# Altium footprint library Pcblib.PcbLib: 9 footprints
Each footprint in its own frame and in the unit in brackets; x right, y up, seen from the top. Pads: shape width x height; smd on the part's side, far side on the other; paste and mask are expansions set on the pad; w line width, h text height; cw(c..) or ccw(c..) is an arc to the next point about the centre after c.
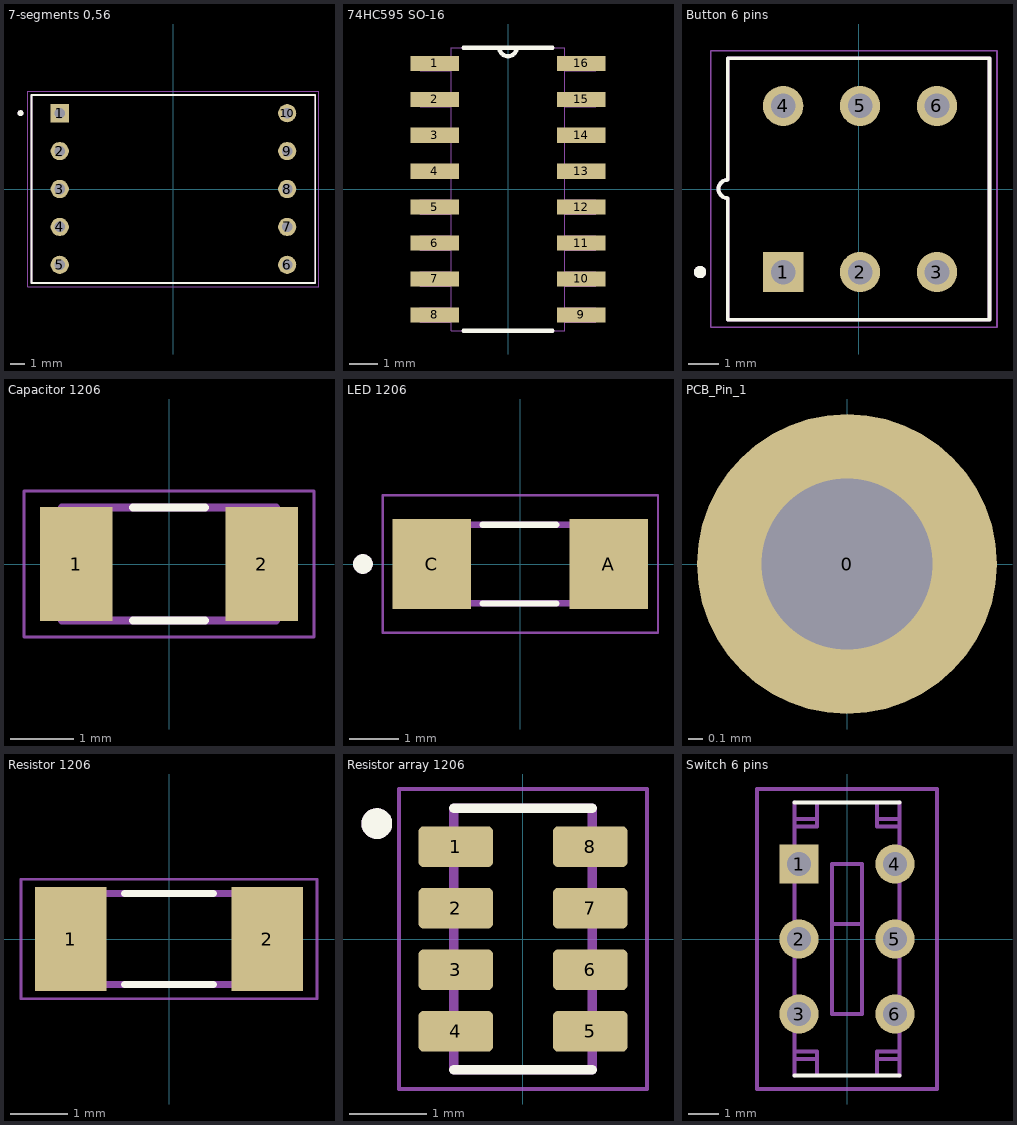
[diagram p0: the footprints below, top view; thin cyan lines are the x and y axes]

## 7-segments 0,56 [mm]
height 8
pads (10):
  rect 1.218x1.218 / inner round 1.218 / far side rect 1.218x1.218 hole 0.71: 1(-7.62,5.08)
  round 1.218 hole 0.71: 2(-7.62,2.54) 3(-7.62,0) 4(-7.62,-2.54) 5(-7.62,-5.08) 6(7.62,-5.08) 7(7.62,-2.54) 8(7.62,0) 9(7.62,2.54) 10(7.62,5.08)
Top Overlay:
  circle w0.2: c-10.25,5.08 r0.1
  lines w0.127: -9.5,-6.3 -9.5,6.3 9.5,6.3 9.5,-6.3 -9.5,-6.3
Mechanical 13:
  circle w0.2: c-10.25,5.08 r0.1
  lines w0.127: -9.5,-6.3 -9.5,6.3 9.5,6.3 9.5,-6.3 -9.5,-6.3
Mechanical 15:
  lines w0.05: -9.75,-6.55 -9.75,6.55 9.75,6.55 9.75,-6.55 -9.75,-6.55
3D body "step_temp.STEP": height 8, standoff -5.25, extent -9.5,-6.3 9.5,6.3

## 74HC595 SO-16 [mil]
pads (16):
  rect 67x21 smd paste+0 mask+4.02: 1(-102,175) 2(-102,125) 3(-102,75) 4(-102,25) 5(-102,-25) 6(-102,-75) 7(-102,-125) 8(-102,-175) 9(102,-175) 10(102,-125) 11(102,-75) 12(102,-25) 13(102,25) 14(102,75) 15(102,125) 16(102,175)
Top Overlay:
  lines w6: -62,-197 62,-197 ; -62,197 -12,197 ; 62,197 12,197 ; -12,197 ccw(c0,197) 12,197 ; -12,197 12,197
Mechanical 13:
  lines w0: -12,197 ccw(c0,197) 12,197 ; -12,197 -79,197 -79,-197 79,-197 79,197 12,197 ; -12,197 12,197 ; -122,-185 -79,-185 -79,-165 -122,-165 -122,-185 ; -122,-135 -79,-135 -79,-115 -122,-115 -122,-135 ; -122,-85 -79,-85 -79,-65 -122,-65 -122,-85 ; -122,-35 -79,-35 -79,-15 -122,-15 -122,-35 ; -122,15 -79,15 -79,35 -122,35 -122,15 ; -122,65 -79,65 -79,85 -122,85 -122,65 ; -122,115 -79,115 -79,135 -122,135 -122,115 ; -122,165 -79,165 -79,185 -122,185 -122,165 ; 79,-185 122,-185 122,-165 79,-165 79,-185 ; 79,-135 122,-135 122,-115 79,-115 79,-135 ; 79,-85 122,-85 122,-65 79,-65 79,-85 ; 79,-35 122,-35 122,-15 79,-15 79,-35 ; 79,15 122,15 122,35 79,35 79,15 ; 79,65 122,65 122,85 79,85 79,65 ; 79,115 122,115 122,135 79,135 79,115 ; 79,165 122,165 122,185 79,185 79,165
3D body "step_temp.STEP": height 68.9, standoff 0, extent -118.11,-194.88 118.11,194.88

## Button 6 pins [mm]
height 14
pads (6):
  rect 1.308x1.308 / inner round 1.308 / far side rect 1.308x1.308 hole 0.8 mask+0.102: 1(-2.45,-2.7)
  round 1.308 hole 0.8 mask+0.102: 2(0.05,-2.7) 3(2.55,-2.7) 4(-2.45,2.7) 5(0.05,2.7) 6(2.55,2.7)
Top Overlay:
  circle w0.2: c-5.15,-2.7 r0.1
  lines w0.127: -4.55,0 cw(c-4.25,0) -4.25,0.3 -4.25,4.25 4.25,4.25 4.25,-4.25 -4.25,-4.25 -4.25,-0.3 cw(c-4.25,0) -4.55,0
Mechanical 13:
  circle w0.2: c-5.15,-2.7 r0.1
  lines w0.127: -4.55,0 cw(c-4.25,0) -4.25,0.3 -4.25,4.25 4.25,4.25 4.25,-4.25 -4.25,-4.25 -4.25,-0.3 cw(c-4.25,0) -4.55,0
Mechanical 15:
  lines w0.05: -4.8,-4.5 -4.8,4.5 4.5,4.5 4.5,-4.5 -4.8,-4.5
3D body "step_temp.STEP": height 15, standoff -3.5, extent -4.548,-4.25 4.25,4.25

## Capacitor 1206 [mm]
pads (2):
  rect 1.16x1.82 smd: 1(-1.475,0) 2(1.475,0)
Top Overlay:
  lines w0.127: -0.57,-0.9 0.57,-0.9 ; -0.57,0.9 0.57,0.9
Mechanical 13:
  lines w0.127: -1.7,-0.9 1.7,-0.9 1.7,0.9 -1.7,0.9 -1.7,-0.9
Mechanical 15:
  lines w0.05: -2.308,-1.158 2.308,-1.158 2.308,1.158 -2.308,1.158 -2.308,-1.158
3D body "step_temp.STEP": height 1.78, standoff 0, extent -1.6,-0.8 1.6,0.8

## LED 1206 [mm]
height 1.2
pads (2):
  rect 1.6x1.82 smd: A(1.8,0) C(-1.8,0)
Top Overlay:
  circle w0.2: c-3.2,0 r0.1
  lines w0.127: -0.769,0.8 0.73,0.8 ; -0.769,-0.802 0.73,-0.802
Mechanical 13:
  circle w0.2: c-3.2,0 r0.1
  lines w0.127: -1.6,-0.8 1.6,-0.8 1.6,0.8 -1.6,0.8 -1.6,-0.8
Mechanical 15:
  lines w0.05: -2.8,-1.4 -2.8,1.4 2.8,1.4 2.8,-1.4 -2.8,-1.4
3D body "LTST-C230KFKT.STEP": height 1.12, standoff 0.02, extent -1.6,-0.8 1.6,0.8

## PCB_Pin_1 [mm]
pads (1):
  round 2.1 hole 1.2: 0(0,0)
3D body "PIN_1.stp": height 4.55, standoff -3.12, extent -1,-0.999 1,0.999

## Resistor 1206 [mm]
pads (2):
  rect 1.25x1.82 smd: 1(-1.725,0) 2(1.725,0)
Top Overlay:
  lines w0.127: -0.78,-0.8 0.78,-0.8 ; -0.78,0.8 0.78,0.8
Mechanical 13:
  lines w0.127: -1.6,-0.8 -1.6,0.8 1.6,0.8 1.6,-0.8 -1.6,-0.8
Mechanical 15:
  lines w0.05: -2.6,-1.05 -2.6,1.05 2.6,1.05 2.6,-1.05 -2.6,-1.05
3D body "ERJ-U08F12R0V.STEP": height 0.6, standoff 0, extent -1.6,-0.8 1.6,0.8

## Resistor array 1206 [mm]
pads (8):
  rrect25% 0.97x0.53 smd: 1(-0.875,1.2) 2(-0.875,0.4) 3(-0.875,-0.4) 4(-0.875,-1.2) 5(0.875,-1.2) 6(0.875,-0.4) 7(0.875,0.4) 8(0.875,1.2)
Top Overlay:
  circle w0.2: c-1.9,1.5 r0.1
  lines w0.127: -0.9,-1.7 0.9,-1.7 ; -0.9,1.7 0.9,1.7
Mechanical 13:
  circle w0.2: c-1.9,1.5 r0.1
  lines w0.127: -0.9,-1.7 -0.9,1.7 0.9,1.7 0.9,-1.7 -0.9,-1.7
Mechanical 15:
  lines w0.05: -1.61,-1.95 -1.61,1.95 1.61,1.95 1.61,-1.95 -1.61,-1.95
3D body "step_temp.STEP": height 0.6, standoff 0, extent -0.8,-1.6 0.8,1.6

## Switch 6 pins [mm]
pads (6):
  rect 1.308x1.308 / inner round 1.308 / far side rect 1.308x1.308 hole 0.8: 1(-1.6,2.5)
  round 1.308 hole 0.8: 2(-1.6,0) 3(-1.6,-2.5) 4(1.6,2.5) 5(1.6,0) 6(1.6,-2.5)
Top Overlay:
  lines w0.127: -1.75,-4.55 1.75,-4.55 ; -1.75,4.55 1.75,4.55
Mechanical 13:
  lines w0.127: -1.75,-4.55 -1.75,-4 ; -1.75,4.55 -1.75,4 ; -1,-4.5 -1,-4 ; -1,4.5 -1,4 ; 1,-4.5 1,-4 ; 1,4.5 1,4 ; 1.75,-4.55 1.75,-4 ; 1.75,4.55 1.75,4 ; -1.75,-4 -1.75,-3.75 ; -1.75,-4 -1,-4 ; -1.75,-3.75 -1.75,3.75 ; -1.75,-3.75 -1,-3.75 -1,-4 ; -1.75,3.75 -1.75,4 ; -1.75,3.75 -1,3.75 -1,4 ; -1.75,4 -1,4 ; -0.5,0.5 -0.5,-2.5 0.5,-2.5 0.5,0.5 ; -0.5,0.5 -0.5,2.5 0.5,2.5 0.5,0.5 ; -0.5,0.5 0.5,0.5 ; 1,-4 1,-3.75 1.75,-3.75 ; 1,-4 1.75,-4 ; 1,4 1,3.75 1.75,3.75 ; 1,4 1.75,4 ; 1.75,-4 1.75,-3.75 ; 1.75,-3.75 1.75,3.75 ; 1.75,3.75 1.75,4
Mechanical 15:
  lines w0.127: -3,-5 3,-5 3,5 -3,5 -3,-5
3D body "step_temp.STEP": height 5.5, standoff -3.15, extent -1.75,-4.55 1.75,4.55